# EAGLE library part TPS62743 (library df4iah_powersupply)
TPS62743 300/400 mA High Efficiency Buck Converter with Ultra-low Quiescent Current Input Voltage Range VIN from 2.15 V to 5.5 V Input Voltage Range Down to 2.0 V Once Started Output Current TPS62743 300 mA TPS627431 400mA 360 nA Operational Quiescent Current Up to 90% Efficiency at 10-μA Output Current Power Save Mode Operation Selectable Output Voltages 8 voltage options between 1.2 V to 3.3 V Output Voltage Discharge Low Output Voltage Ripple Automatic Transition to No Ripple 100% Mode RF Friendly DCS-Control™ Total Solution Size <10mm2 Small 1.6 mm × 0.9 mm, 8 Ball WCSP Package
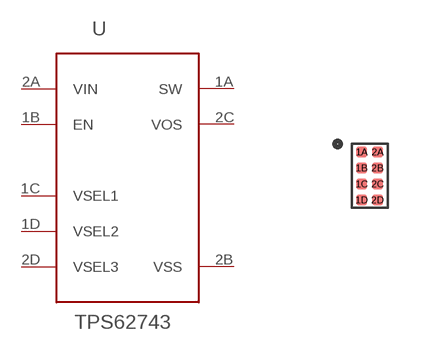
[diagram p6: symbol with the pads of WCSP-8; footprint WCSP-8]

Designator prefix U

## TPS62743  [WCSP-8]
1A  SW  pas
1B  EN  in
1C  VSEL1  in
1D  VSEL2  in
2A  VIN  pwr
2B  VSS  pas
2C  VOS  pas
2D  VSEL3  in

## Footprint WCSP-8 (pad centres in mm)
WCSP package (pitch 0.4 mm) - 8 positions 0.4 mm ball grid 4 x 2 positions
smd 0.27 x 0.27: 1A -0.2,0.6; 1B -0.2,0.2; 1C -0.2,-0.2; 1D -0.2,-0.6; 2A 0.2,0.6; 2B 0.2,0.2; 2C 0.2,-0.2; 2D 0.2,-0.6